# Altium integrated library Actel ProASIC3.IntLib: 427 symbols (part 8 of 68)
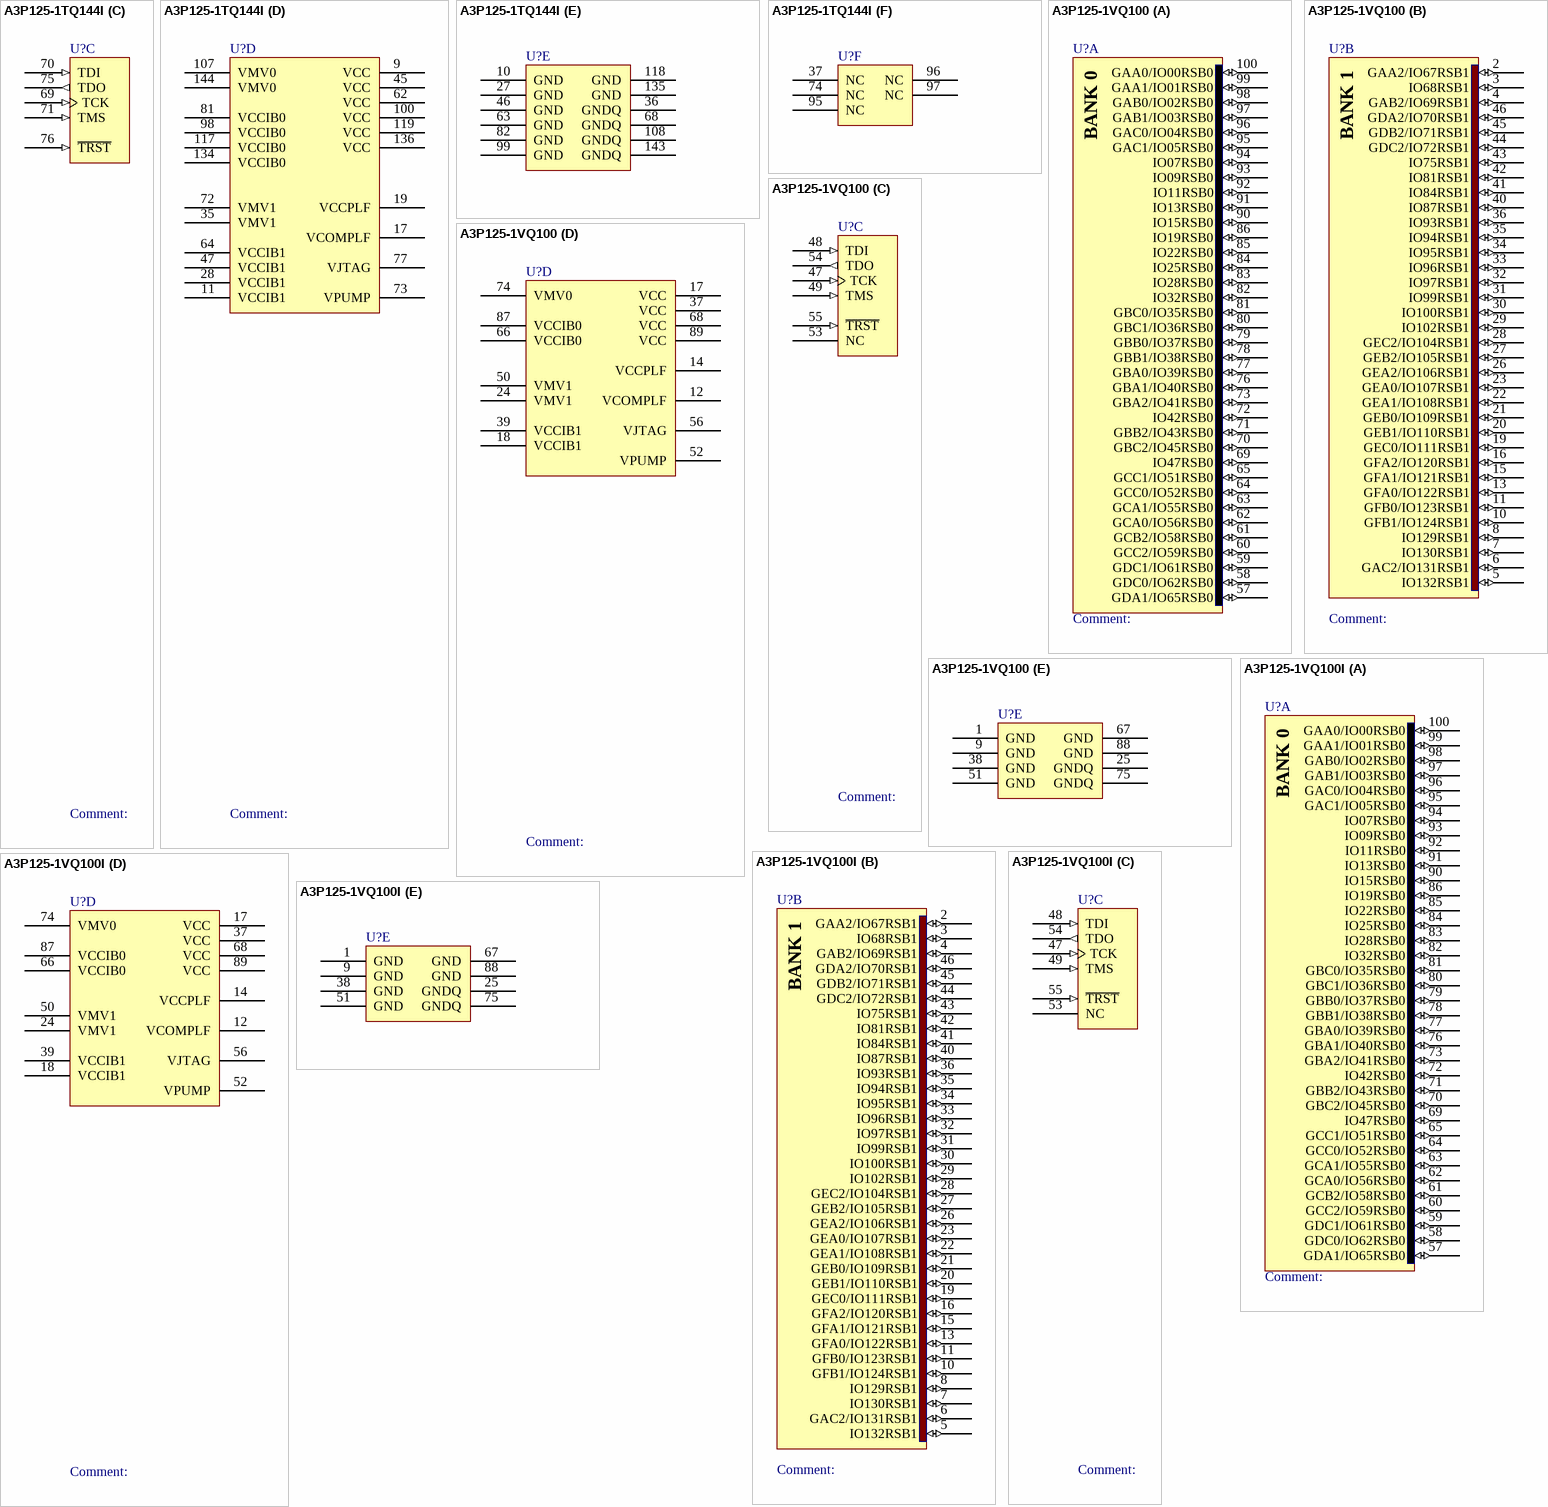
[diagram p404: symbols A3P125-1TQ144I to A3P125-1VQ100I]

## A3P125-1VQ100I
designator U?
ProASIC3 Flash Family FPGA, 71 User IOs, 125K System Gates, 36 Kbits RAM, 1 Kbit Flash ROM, 1 PLL, 100-Pin VQFP, Industrial Grade; Published: 4-Mar-2005; LatestRevisionDate: 13-Apr-2006; LatestRevisionNote: IPC-7351 Footprint Added.; DatasheetVersion: v1.1, Feb-2009; PackageVersion: v11.0, Feb-2009; PackageReference: VQ100; Publisher: Altium Limited; PackageDescription: 100-Pin Plastic Quad Flat Pack (VQ100); Code_JEDEC: MS-026-AED; ComponentLink1Description: Manufacturer Link; ComponentLink1URL: http://www.actel.com/products/pa3/; ComponentLink2Description: Datasheet; ComponentLink2URL: http://www.actel.com/documents/PA3_DS.pdf; ComponentLink3Description: Packaging Specification; ComponentLink3URL: http://www.actel.com/documents/PckgMechDrwngs.pdf
footprint VQ100_N (Thin QFP, 100-Leads, Body 14x14mm, Pitch 0.5mm, IPC Medium Density)
footprint VQ100_L (Thin QFP, 100-Leads, Body 14x14mm, Pitch 0.5mm, IPC High Density)
footprint VQ100_M (Thin QFP, 100-Leads, Body 14x14mm, Pitch 0.5mm, IPC Low Density)
3D model A3P125-VQ100 (100-Pin Plastic Quad Flat Pack (VQ100))
signal-integrity model A3P125_VQ100 (ProASIC3)
part A pins: 57 GDA1/IO65RSB0 (io), 58 GDC0/IO62RSB0 (io), 59 GDC1/IO61RSB0 (io), 60 GCC2/IO59RSB0 (io), 61 GCB2/IO58RSB0 (io), 62 GCA0/IO56RSB0 (io), 63 GCA1/IO55RSB0 (io), 64 GCC0/IO52RSB0 (io), 65 GCC1/IO51RSB0 (io), 69 IO47RSB0 (io), 70 GBC2/IO45RSB0 (io), 71 GBB2/IO43RSB0 (io), 72 IO42RSB0 (io), 73 GBA2/IO41RSB0 (io), 76 GBA1/IO40RSB0 (io), 77 GBA0/IO39RSB0 (io), 78 GBB1/IO38RSB0 (io), 79 GBB0/IO37RSB0 (io), 80 GBC1/IO36RSB0 (io), 81 GBC0/IO35RSB0 (io), 82 IO32RSB0 (io), 83 IO28RSB0 (io), 84 IO25RSB0 (io), 85 IO22RSB0 (io), 86 IO19RSB0 (io), 90 IO15RSB0 (io), 91 IO13RSB0 (io), 92 IO11RSB0 (io), 93 IO09RSB0 (io), 94 IO07RSB0 (io), 95 GAC1/IO05RSB0 (io), 96 GAC0/IO04RSB0 (io), 97 GAB1/IO03RSB0 (io), 98 GAB0/IO02RSB0 (io), 99 GAA1/IO01RSB0 (io), 100 GAA0/IO00RSB0 (io)
part B pins: 2 GAA2/IO67RSB1 (io), 3 IO68RSB1 (io), 4 GAB2/IO69RSB1 (io), 5 IO132RSB1 (io), 6 GAC2/IO131RSB1 (io), 7 IO130RSB1 (io), 8 IO129RSB1 (io), 10 GFB1/IO124RSB1 (io), 11 GFB0/IO123RSB1 (io), 13 GFA0/IO122RSB1 (io), 15 GFA1/IO121RSB1 (io), 16 GFA2/IO120RSB1 (io), 19 GEC0/IO111RSB1 (io), 20 GEB1/IO110RSB1 (io), 21 GEB0/IO109RSB1 (io), 22 GEA1/IO108RSB1 (io), 23 GEA0/IO107RSB1 (io), 26 GEA2/IO106RSB1 (io), 27 GEB2/IO105RSB1 (io), 28 GEC2/IO104RSB1 (io), 29 IO102RSB1 (io), 30 IO100RSB1 (io), 31 IO99RSB1 (io), 32 IO97RSB1 (io), 33 IO96RSB1 (io), 34 IO95RSB1 (io), 35 IO94RSB1 (io), 36 IO93RSB1 (io), 40 IO87RSB1 (io), 41 IO84RSB1 (io), 42 IO81RSB1 (io), 43 IO75RSB1 (io), 44 GDC2/IO72RSB1 (io), 45 GDB2/IO71RSB1 (io), 46 GDA2/IO70RSB1 (io)
part C pins: 47 TCK (in), 48 TDI (in), 49 TMS (in), 53 NC, 54 TDO (out), 55 ~{TRST} (in)
part D pins: 12 VCOMPLF (power), 14 VCCPLF (power), 17 VCC (power), 18 VCCIB1 (power), 24 VMV1 (power), 37 VCC (power), 39 VCCIB1 (power), 50 VMV1 (power), 52 VPUMP (power), 56 VJTAG (power), 66 VCCIB0 (power), 68 VCC (power), 74 VMV0 (power), 87 VCCIB0 (power), 89 VCC (power)
part E pins: 1 GND (power), 9 GND (power), 25 GNDQ (power), 38 GND (power), 51 GND (power), 67 GND (power), 75 GNDQ (power), 88 GND (power)
part A text: BANK 0
part B text: BANK 1

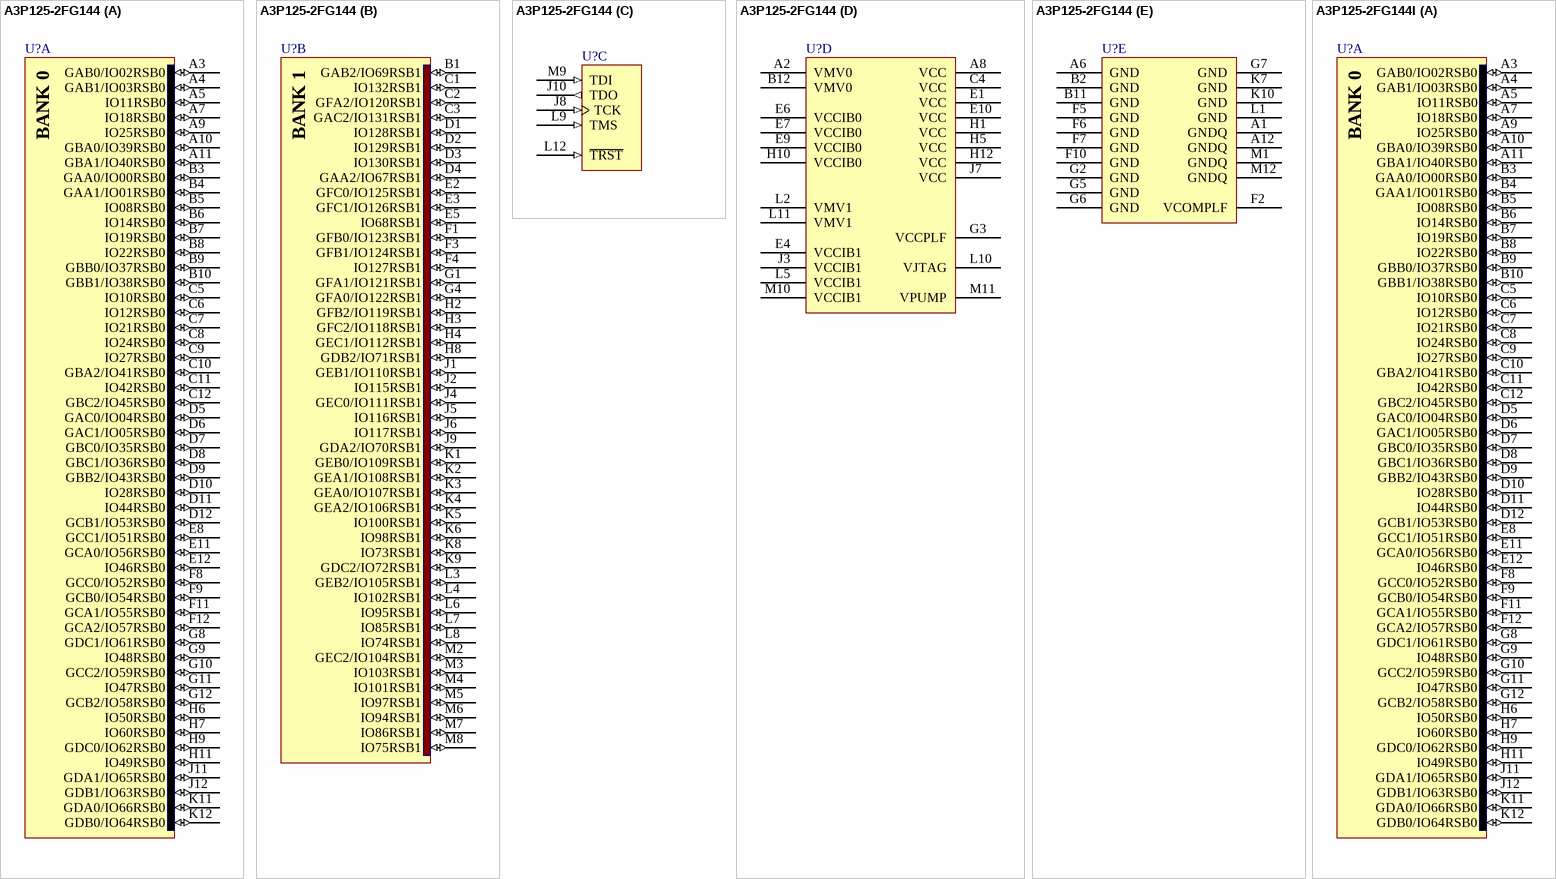
[diagram p34: symbols A3P125-2FG144 to A3P125-2FG144I]

## A3P125-2FG144
designator U?
ProASIC3 Flash Family FPGA, 97 User IOs, 125K System Gates, 36 Kbits RAM, 1 Kbit Flash ROM, 1 PLL, 144-Ball FBGA, Commercial Grade; Published: 13-Apr-2006; DatasheetVersion: v1.1, Feb-2009; PackageVersion: v11.0, Feb-2009; PackageReference: FG144; Publisher: Altium Limited; PackageDescription: 144-Ball Fine Pitch Plastic Ball Grid Array (FG144); Code_JEDEC: MO-192-DAD-1; ComponentLink1Description: Manufacturer Link; ComponentLink1URL: http://www.actel.com/products/pa3/; ComponentLink2Description: Datasheet; ComponentLink2URL: http://www.actel.com/documents/PA3_DS.pdf; ComponentLink3Description: Packaging Specification; ComponentLink3URL: http://www.actel.com/documents/PckgMechDrwngs.pdf
footprint FG144 (BGA, 144-Leads, Body 13x13mm, Pitch 1mm)
3D model A3P125-FG144 (144-Ball Fine Pitch Plastic Ball Grid Array (FG144))
signal-integrity model A3P125_FG144 (ProASIC3)
part A pins: A3 GAB0/IO02RSB0 (io), A4 GAB1/IO03RSB0 (io), A5 IO11RSB0 (io), A7 IO18RSB0 (io), A9 IO25RSB0 (io), A10 GBA0/IO39RSB0 (io), A11 GBA1/IO40RSB0 (io), B3 GAA0/IO00RSB0 (io), B4 GAA1/IO01RSB0 (io), B5 IO08RSB0 (io), B6 IO14RSB0 (io), B7 IO19RSB0 (io), B8 IO22RSB0 (io), B9 GBB0/IO37RSB0 (io), B10 GBB1/IO38RSB0 (io), C5 IO10RSB0 (io), C6 IO12RSB0 (io), C7 IO21RSB0 (io), C8 IO24RSB0 (io), C9 IO27RSB0 (io), C10 GBA2/IO41RSB0 (io), C11 IO42RSB0 (io), C12 GBC2/IO45RSB0 (io), D5 GAC0/IO04RSB0 (io), D6 GAC1/IO05RSB0 (io), D7 GBC0/IO35RSB0 (io), D8 GBC1/IO36RSB0 (io), D9 GBB2/IO43RSB0 (io), D10 IO28RSB0 (io), D11 IO44RSB0 (io), D12 GCB1/IO53RSB0 (io), E8 GCC1/IO51RSB0 (io), E11 GCA0/IO56RSB0 (io), E12 IO46RSB0 (io), F8 GCC0/IO52RSB0 (io), F9 GCB0/IO54RSB0 (io), F11 GCA1/IO55RSB0 (io), F12 GCA2/IO57RSB0 (io), G8 GDC1/IO61RSB0 (io), G9 IO48RSB0 (io), G10 GCC2/IO59RSB0 (io), G11 IO47RSB0 (io), G12 GCB2/IO58RSB0 (io), H6 IO50RSB0 (io), H7 IO60RSB0 (io), H9 GDC0/IO62RSB0 (io), H11 IO49RSB0 (io), J11 GDA1/IO65RSB0 (io), J12 GDB1/IO63RSB0 (io), K11 GDA0/IO66RSB0 (io), K12 GDB0/IO64RSB0 (io)
part B pins: B1 GAB2/IO69RSB1 (io), C1 IO132RSB1 (io), C2 GFA2/IO120RSB1 (io), C3 GAC2/IO131RSB1 (io), D1 IO128RSB1 (io), D2 IO129RSB1 (io), D3 IO130RSB1 (io), D4 GAA2/IO67RSB1 (io), E2 GFC0/IO125RSB1 (io), E3 GFC1/IO126RSB1 (io), E5 IO68RSB1 (io), F1 GFB0/IO123RSB1 (io), F3 GFB1/IO124RSB1 (io), F4 IO127RSB1 (io), G1 GFA1/IO121RSB1 (io), G4 GFA0/IO122RSB1 (io), H2 GFB2/IO119RSB1 (io), H3 GFC2/IO118RSB1 (io), H4 GEC1/IO112RSB1 (io), H8 GDB2/IO71RSB1 (io), J1 GEB1/IO110RSB1 (io), J2 IO115RSB1 (io), J4 GEC0/IO111RSB1 (io), J5 IO116RSB1 (io), J6 IO117RSB1 (io), J9 GDA2/IO70RSB1 (io), K1 GEB0/IO109RSB1 (io), K2 GEA1/IO108RSB1 (io), K3 GEA0/IO107RSB1 (io), K4 GEA2/IO106RSB1 (io), K5 IO100RSB1 (io), K6 IO98RSB1 (io), K8 IO73RSB1 (io), K9 GDC2/IO72RSB1 (io), L3 GEB2/IO105RSB1 (io), L4 IO102RSB1 (io), L6 IO95RSB1 (io), L7 IO85RSB1 (io), L8 IO74RSB1 (io), M2 GEC2/IO104RSB1 (io), M3 IO103RSB1 (io), M4 IO101RSB1 (io), M5 IO97RSB1 (io), M6 IO94RSB1 (io), M7 IO86RSB1 (io), M8 IO75RSB1 (io)
part C pins: J8 TCK (in), J10 TDO (out), L9 TMS (in), L12 ~{TRST} (in), M9 TDI (in)
part D pins: A2 VMV0 (power), A8 VCC (power), B12 VMV0 (power), C4 VCC (power), E1 VCC (power), E4 VCCIB1 (power), E6 VCCIB0 (power), E7 VCCIB0 (power), E9 VCCIB0 (power), E10 VCC (power), G3 VCCPLF (power), H1 VCC (power), H5 VCC (power), H10 VCCIB0 (power), H12 VCC (power), J3 VCCIB1 (power), J7 VCC (power), L2 VMV1 (power), L5 VCCIB1 (power), L10 VJTAG (power), L11 VMV1 (power), M10 VCCIB1 (power), M11 VPUMP (power)
part E pins: A1 GNDQ (power), A6 GND (power), A12 GNDQ (power), B2 GND (power), B11 GND (power), F2 VCOMPLF (power), F5 GND (power), F6 GND (power), F7 GND (power), F10 GND (power), G2 GND (power), G5 GND (power), G6 GND (power), G7 GND (power), K7 GND (power), K10 GND (power), L1 GND (power), M1 GNDQ (power), M12 GNDQ (power)
part A text: BANK 0
part B text: BANK 1

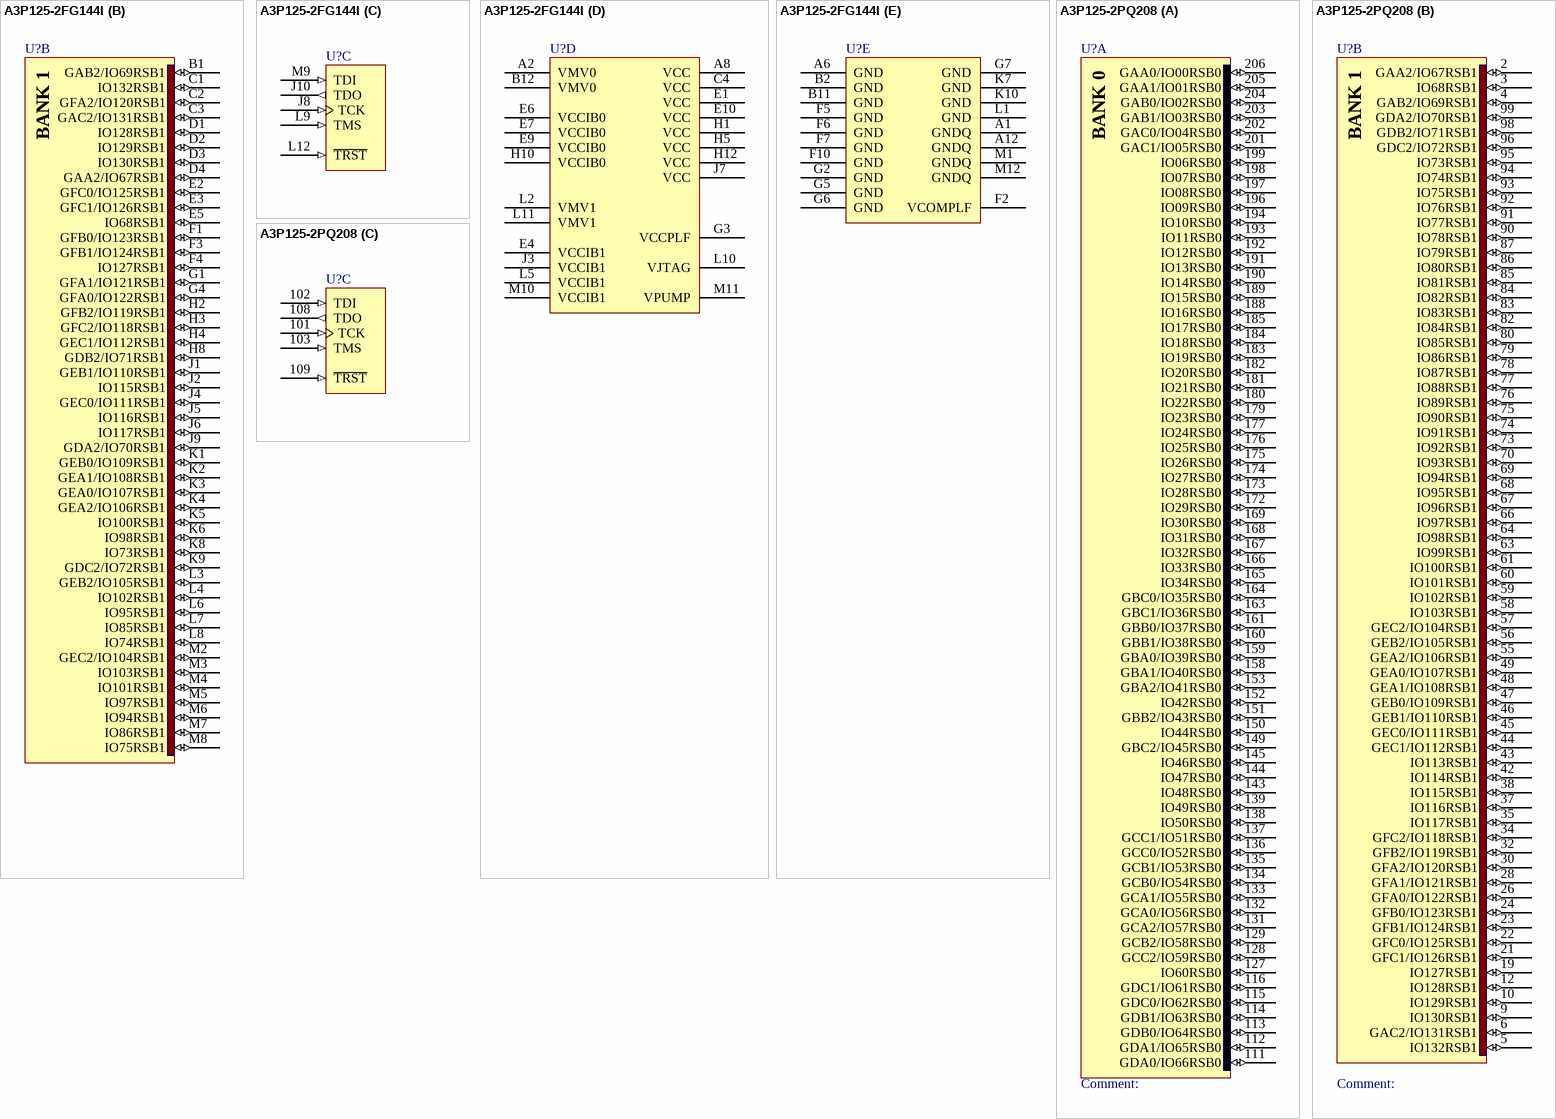
[diagram p35: symbols A3P125-2FG144I to A3P125-2PQ208]

## A3P125-2FG144I
designator U?
ProASIC3 Flash Family FPGA, 97 User IOs, 125K System Gates, 36 Kbits RAM, 1 Kbit Flash ROM, 1 PLL, 144-Ball FBGA, Industrial Grade; Published: 13-Apr-2006; DatasheetVersion: v1.1, Feb-2009; PackageVersion: v11.0, Feb-2009; PackageReference: FG144; Publisher: Altium Limited; PackageDescription: 144-Ball Fine Pitch Plastic Ball Grid Array (FG144); Code_JEDEC: MO-192-DAD-1; ComponentLink1Description: Manufacturer Link; ComponentLink1URL: http://www.actel.com/products/pa3/; ComponentLink2Description: Datasheet; ComponentLink2URL: http://www.actel.com/documents/PA3_DS.pdf; ComponentLink3Description: Packaging Specification; ComponentLink3URL: http://www.actel.com/documents/PckgMechDrwngs.pdf
footprint FG144 (BGA, 144-Leads, Body 13x13mm, Pitch 1mm)
3D model A3P125-FG144 (144-Ball Fine Pitch Plastic Ball Grid Array (FG144))
signal-integrity model A3P125_FG144 (ProASIC3)
part A pins: A3 GAB0/IO02RSB0 (io), A4 GAB1/IO03RSB0 (io), A5 IO11RSB0 (io), A7 IO18RSB0 (io), A9 IO25RSB0 (io), A10 GBA0/IO39RSB0 (io), A11 GBA1/IO40RSB0 (io), B3 GAA0/IO00RSB0 (io), B4 GAA1/IO01RSB0 (io), B5 IO08RSB0 (io), B6 IO14RSB0 (io), B7 IO19RSB0 (io), B8 IO22RSB0 (io), B9 GBB0/IO37RSB0 (io), B10 GBB1/IO38RSB0 (io), C5 IO10RSB0 (io), C6 IO12RSB0 (io), C7 IO21RSB0 (io), C8 IO24RSB0 (io), C9 IO27RSB0 (io), C10 GBA2/IO41RSB0 (io), C11 IO42RSB0 (io), C12 GBC2/IO45RSB0 (io), D5 GAC0/IO04RSB0 (io), D6 GAC1/IO05RSB0 (io), D7 GBC0/IO35RSB0 (io), D8 GBC1/IO36RSB0 (io), D9 GBB2/IO43RSB0 (io), D10 IO28RSB0 (io), D11 IO44RSB0 (io), D12 GCB1/IO53RSB0 (io), E8 GCC1/IO51RSB0 (io), E11 GCA0/IO56RSB0 (io), E12 IO46RSB0 (io), F8 GCC0/IO52RSB0 (io), F9 GCB0/IO54RSB0 (io), F11 GCA1/IO55RSB0 (io), F12 GCA2/IO57RSB0 (io), G8 GDC1/IO61RSB0 (io), G9 IO48RSB0 (io), G10 GCC2/IO59RSB0 (io), G11 IO47RSB0 (io), G12 GCB2/IO58RSB0 (io), H6 IO50RSB0 (io), H7 IO60RSB0 (io), H9 GDC0/IO62RSB0 (io), H11 IO49RSB0 (io), J11 GDA1/IO65RSB0 (io), J12 GDB1/IO63RSB0 (io), K11 GDA0/IO66RSB0 (io), K12 GDB0/IO64RSB0 (io)
part B pins: B1 GAB2/IO69RSB1 (io), C1 IO132RSB1 (io), C2 GFA2/IO120RSB1 (io), C3 GAC2/IO131RSB1 (io), D1 IO128RSB1 (io), D2 IO129RSB1 (io), D3 IO130RSB1 (io), D4 GAA2/IO67RSB1 (io), E2 GFC0/IO125RSB1 (io), E3 GFC1/IO126RSB1 (io), E5 IO68RSB1 (io), F1 GFB0/IO123RSB1 (io), F3 GFB1/IO124RSB1 (io), F4 IO127RSB1 (io), G1 GFA1/IO121RSB1 (io), G4 GFA0/IO122RSB1 (io), H2 GFB2/IO119RSB1 (io), H3 GFC2/IO118RSB1 (io), H4 GEC1/IO112RSB1 (io), H8 GDB2/IO71RSB1 (io), J1 GEB1/IO110RSB1 (io), J2 IO115RSB1 (io), J4 GEC0/IO111RSB1 (io), J5 IO116RSB1 (io), J6 IO117RSB1 (io), J9 GDA2/IO70RSB1 (io), K1 GEB0/IO109RSB1 (io), K2 GEA1/IO108RSB1 (io), K3 GEA0/IO107RSB1 (io), K4 GEA2/IO106RSB1 (io), K5 IO100RSB1 (io), K6 IO98RSB1 (io), K8 IO73RSB1 (io), K9 GDC2/IO72RSB1 (io), L3 GEB2/IO105RSB1 (io), L4 IO102RSB1 (io), L6 IO95RSB1 (io), L7 IO85RSB1 (io), L8 IO74RSB1 (io), M2 GEC2/IO104RSB1 (io), M3 IO103RSB1 (io), M4 IO101RSB1 (io), M5 IO97RSB1 (io), M6 IO94RSB1 (io), M7 IO86RSB1 (io), M8 IO75RSB1 (io)
part C pins: J8 TCK (in), J10 TDO (out), L9 TMS (in), L12 ~{TRST} (in), M9 TDI (in)
part D pins: A2 VMV0 (power), A8 VCC (power), B12 VMV0 (power), C4 VCC (power), E1 VCC (power), E4 VCCIB1 (power), E6 VCCIB0 (power), E7 VCCIB0 (power), E9 VCCIB0 (power), E10 VCC (power), G3 VCCPLF (power), H1 VCC (power), H5 VCC (power), H10 VCCIB0 (power), H12 VCC (power), J3 VCCIB1 (power), J7 VCC (power), L2 VMV1 (power), L5 VCCIB1 (power), L10 VJTAG (power), L11 VMV1 (power), M10 VCCIB1 (power), M11 VPUMP (power)
part E pins: A1 GNDQ (power), A6 GND (power), A12 GNDQ (power), B2 GND (power), B11 GND (power), F2 VCOMPLF (power), F5 GND (power), F6 GND (power), F7 GND (power), F10 GND (power), G2 GND (power), G5 GND (power), G6 GND (power), G7 GND (power), K7 GND (power), K10 GND (power), L1 GND (power), M1 GNDQ (power), M12 GNDQ (power)
part A text: BANK 0
part B text: BANK 1

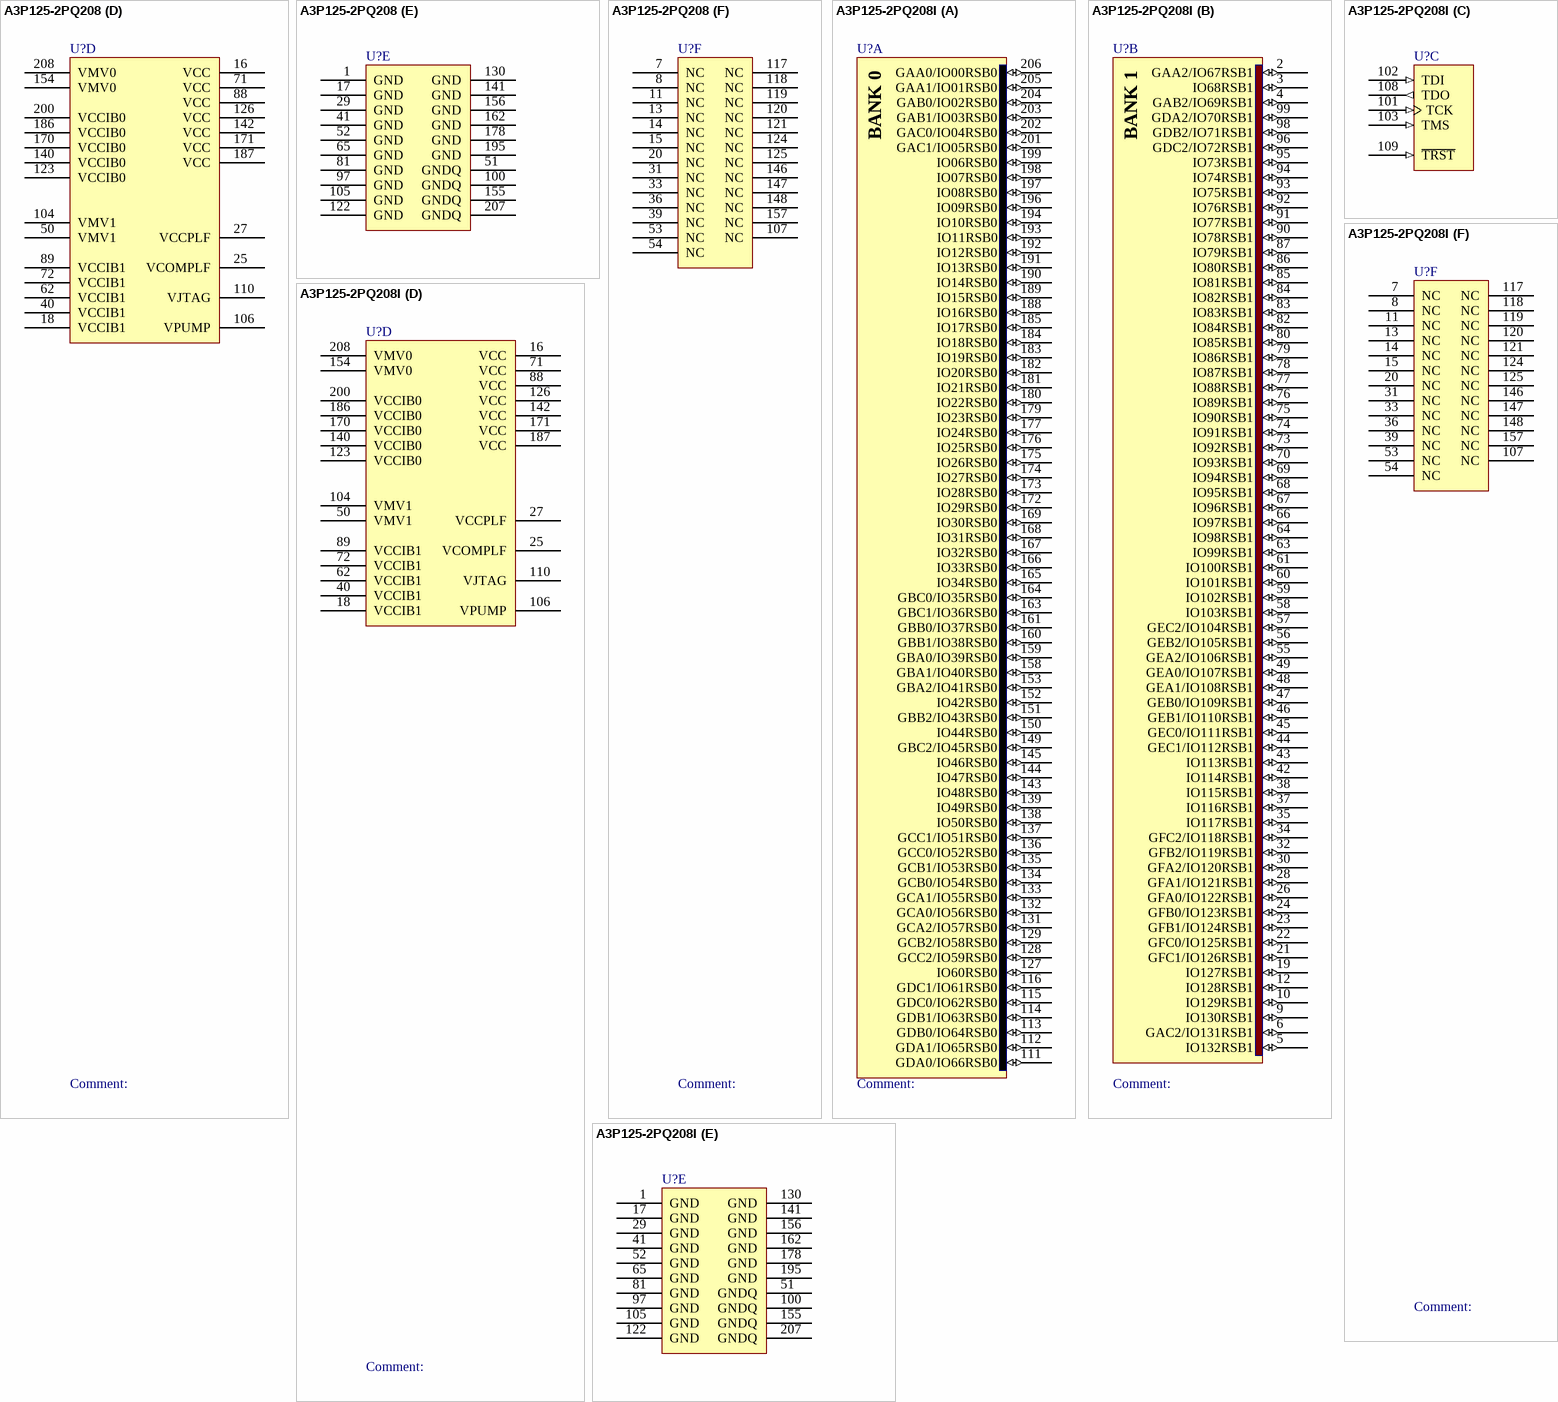
[diagram p36: symbols A3P125-2PQ208 to A3P125-2PQ208I]